# Altium integrated library Micron Memory Mobile LPDRAM.IntLib: 146 symbols (part 9 of 41)
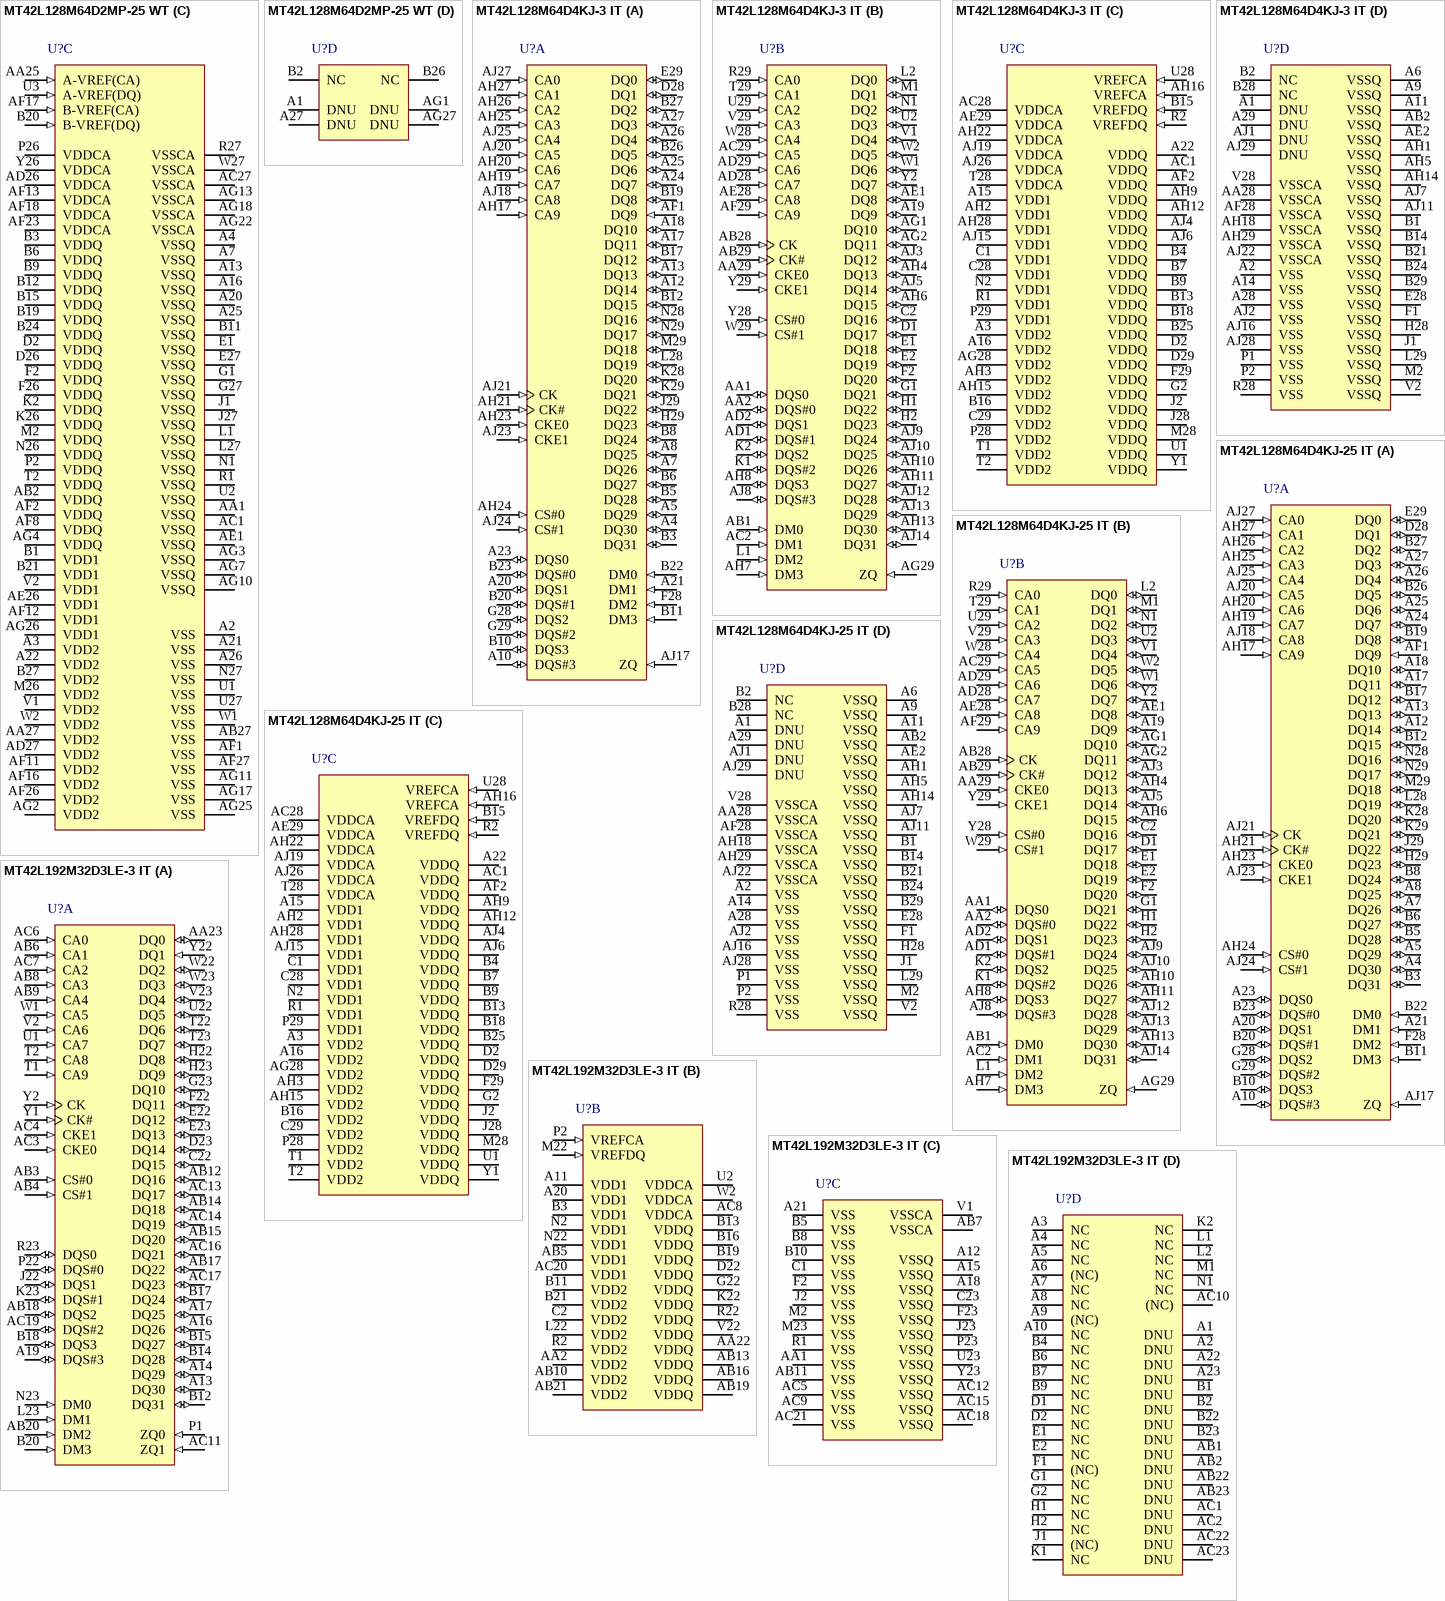
[diagram p32: symbols MT42L128M64D2MP-25 WT to MT42L192M32D3LE-3 IT]

## MT42L128M64D4KJ-25 IT
designator U?
8Gb LPDDR2-800 SDRAM, 128Mb x 64, 2.5ns, 1.2V, -25 to 85 degC, 216-Pin POP; Manufacturer: Micron; PartNumber: MT42L128M64D4KJ-25 IT; Clock Rate: 400 MHz; Op. Temp.: -25C to +85C; DatasheetVersion: Rev.N; PackageVersion: Rev.N; PackageReference: MICT-KJ-216; PackageDescription: 216-Ball POP, 12 x 12 mm, Pitch 0.4 mm; Cycle Time: 2.5ns; Data Rate: LPDDR2-800; Density: 8Gb; Depth: 128Mb; Package: POP; Part Status: Production; Pin Count: 216-ball; RoHS: Yes; Technology: Mobile LPDDR2; Voltage: 1.2V; Width: x64; Mounting Technology: Surface Mount; ComponentLink1Description: Manufacturer URL; ComponentLink1URL: http://www.micron.com/; ComponentLink2Description: Datasheet; ComponentLink2URL: http://www.micron.com/~/media/Documents/Products/Data%20Sheet/DRAM/Mobile%20DRAM/Low-Power%20DRAM/LPDDR2/G69A_2Gb_mobile_lpddr2_s4_sdram.pdf; ComponentLink3Description: Package Specification; ComponentLink3URL: http://www.micron.com/~/media/Documents/Products/Data%20Sheet/DRAM/Mobile%20DRAM/Low-Power%20DRAM/LPDDR2/G69A_2Gb_mobile_lpddr2_s4_sdram.pdf
footprint MICT-KJ-216 (BGA, 216-Balls, Body 12x12mm, Pitch 0.4mm)
part A pins: A4 DQ30 (io) "Data input/output: Bidirectional data bus.", A5 DQ29 (io) "Data input/output: Bidirectional data bus.", A7 DQ26 (io) "Data input/output: Bidirectional data bus.", A8 DQ25 (io) "Data input/output: Bidirectional data bus.", A10 DQS#3 (io) "Data strobe: The data strobe is bidirectional (used for read and write data) and complementary (DQS and DQS#). It is edge-aligned output with read data and centered input with write data. DQS[3:0]/DQS[3:0]# is DQS for each (See Datasheet)", A12 DQ14 (io) "Data input/output: Bidirectional data bus.", A13 DQ13 (io) "Data input/output: Bidirectional data bus.", A17 DQ11 (io) "Data input/output: Bidirectional data bus.", A18 DQ10 (io) "Data input/output: Bidirectional data bus.", A20 DQS1 (io) "Data strobe: The data strobe is bidirectional (used for read and write data) and complementary (DQS and DQS#). It is edge-aligned output with read data and centered input with write data. DQS[3:0]/DQS[3:0]# is DQS for each (See Datasheet)", A21 DM1 (in) "Input data mask: DM is an input mask signal for write data. Although DM balls are input-only, the DM loading is designed to match that of DQ and DQS balls. DM[3:0] is DM for each of the four data bytes, respectively.", A23 DQS0 (io) "Data strobe: The data strobe is bidirectional (used for read and write data) and complementary (DQS and DQS#). It is edge-aligned output with read data and centered input with write data. DQS[3:0]/DQS[3:0]# is DQS for each (See Datasheet)", A24 DQ7 (io) "Data input/output: Bidirectional data bus.", A25 DQ6 (io) "Data input/output: Bidirectional data bus.", A26 DQ4 (io) "Data input/output: Bidirectional data bus.", A27 DQ3 (io) "Data input/output: Bidirectional data bus.", AF1 DQ9 (in) "Data input/output: Bidirectional data bus.", AH17 CA9 (in) "Command/address inputs: Provide the command and address inputs according to the command truth table.", AH19 CA7 (in) "Command/address inputs: Provide the command and address inputs according to the command truth table.", AH20 CA6 (in) "Command/address inputs: Provide the command and address inputs according to the command truth table.", AH21 CK# (in) "Clock: CK and CK# are differential clock inputs. All CA inputs are sampled on both rising and falling edges of CK. CS and CKE inputs are sampled at the rising edge of CK. AC timings are referenced to clock.", AH23 CKE0 (in) "Clock enable: CKE HIGH activates and CKE LOW deactivates the internal clock signals, input buffers, and output drivers. Power-saving modes are entered and exited via CKE transitions. CKE is considered part of the command (See Datasheet)", AH24 CS#0 (in) "Chip select: CS# is considered part of the command code and is sampled at the rising edge of CK.", AH25 CA3 (in) "Command/address inputs: Provide the command and address inputs according to the command truth table.", AH26 CA2 (in) "Command/address inputs: Provide the command and address inputs according to the command truth table.", AH27 CA1 (in) "Command/address inputs: Provide the command and address inputs according to the command truth table.", AJ17 ZQ (in) "External impedance (240 ohm): This signal is used to calibrate the device output impedance for S4 devices. For S2 devices, ZQ should be tied to VDDCA.", AJ18 CA8 (in) "Command/address inputs: Provide the command and address inputs according to the command truth table.", AJ20 CA5 (in) "Command/address inputs: Provide the command and address inputs according to the command truth table.", AJ21 CK (in) "Clock: CK and CK# are differential clock inputs. All CA inputs are sampled on both rising and falling edges of CK. CS and CKE inputs are sampled at the rising edge of CK. AC timings are referenced to clock.", AJ23 CKE1 (in) "Clock enable: CKE HIGH activates and CKE LOW deactivates the internal clock signals, input buffers, and output drivers. Power-saving modes are entered and exited via CKE transitions. CKE is considered part of the command (See Datasheet)", AJ24 CS#1 (in) "Chip select: CS# is considered part of the command code and is sampled at the rising edge of CK.", AJ25 CA4 (in) "Command/address inputs: Provide the command and address inputs according to the command truth table.", AJ27 CA0 (in) "Command/address inputs: Provide the command and address inputs according to the command truth table.", B3 DQ31 (io) "Data input/output: Bidirectional data bus.", B5 DQ28 (io) "Data input/output: Bidirectional data bus.", B6 DQ27 (io) "Data input/output: Bidirectional data bus.", B8 DQ24 (io) "Data input/output: Bidirectional data bus.", B10 DQS3 (io) "Data strobe: The data strobe is bidirectional (used for read and write data) and complementary (DQS and DQS#). It is edge-aligned output with read data and centered input with write data. DQS[3:0]/DQS[3:0]# is DQS for each (See Datasheet)", B11 DM3 (in) "Input data mask: DM is an input mask signal for write data. Although DM balls are input-only, the DM loading is designed to match that of DQ and DQS balls. DM[3:0] is DM for each of the four data bytes, respectively.", B12 DQ15 (io) "Data input/output: Bidirectional data bus.", B17 DQ12 (io) "Data input/output: Bidirectional data bus.", B19 DQ8 (io) "Data input/output: Bidirectional data bus.", B20 DQS#1 (io) "Data strobe: The data strobe is bidirectional (used for read and write data) and complementary (DQS and DQS#). It is edge-aligned output with read data and centered input with write data. DQS[3:0]/DQS[3:0]# is DQS for each (See Datasheet)", B22 DM0 (in) "Input data mask: DM is an input mask signal for write data. Although DM balls are input-only, the DM loading is designed to match that of DQ and DQS balls. DM[3:0] is DM for each of the four data bytes, respectively.", B23 DQS#0 (io) "Data strobe: The data strobe is bidirectional (used for read and write data) and complementary (DQS and DQS#). It is edge-aligned output with read data and centered input with write data. DQS[3:0]/DQS[3:0]# is DQS for each (See Datasheet)", B26 DQ5 (io) "Data input/output: Bidirectional data bus.", B27 DQ2 (io) "Data input/output: Bidirectional data bus.", D28 DQ1 (io) "Data input/output: Bidirectional data bus.", E29 DQ0 (io) "Data input/output: Bidirectional data bus.", F28 DM2 (in) "Input data mask: DM is an input mask signal for write data. Although DM balls are input-only, the DM loading is designed to match that of DQ and DQS balls. DM[3:0] is DM for each of the four data bytes, respectively.", G28 DQS2 (io) "Data strobe: The data strobe is bidirectional (used for read and write data) and complementary (DQS and DQS#). It is edge-aligned output with read data and centered input with write data. DQS[3:0]/DQS[3:0]# is DQS for each (See Datasheet)", G29 DQS#2 (io) "Data strobe: The data strobe is bidirectional (used for read and write data) and complementary (DQS and DQS#). It is edge-aligned output with read data and centered input with write data. DQS[3:0]/DQS[3:0]# is DQS for each (See Datasheet)", H29 DQ23 (io) "Data input/output: Bidirectional data bus.", J29 DQ22 (io) "Data input/output: Bidirectional data bus.", K28 DQ20 (io) "Data input/output: Bidirectional data bus.", K29 DQ21 (io) "Data input/output: Bidirectional data bus.", L28 DQ19 (io) "Data input/output: Bidirectional data bus.", M29 DQ18 (io) "Data input/output: Bidirectional data bus.", N28 DQ16 (io) "Data input/output: Bidirectional data bus.", N29 DQ17 (io) "Data input/output: Bidirectional data bus."
part B pins: A19 DQ9 (io) "Data input/output: Bidirectional data bus.", AA1 DQS0 (io) "Data strobe: The data strobe is bidirectional (used for read and write data) and complementary (DQS and DQS#). It is edge-aligned output with read data and centered input with write data. DQS[3:0]/DQS[3:0]# is DQS for each (See Datasheet)", AA2 DQS#0 (io) "Data strobe: The data strobe is bidirectional (used for read and write data) and complementary (DQS and DQS#). It is edge-aligned output with read data and centered input with write data. DQS[3:0]/DQS[3:0]# is DQS for each (See Datasheet)", AA29 CKE0 (in) "Clock enable: CKE HIGH activates and CKE LOW deactivates the internal clock signals, input buffers, and output drivers. Power-saving modes are entered and exited via CKE transitions. CKE is considered part of the command (See Datasheet)", AB1 DM0 (in) "Input data mask: DM is an input mask signal for write data. Although DM balls are input-only, the DM loading is designed to match that of DQ and DQS balls. DM[3:0] is DM for each of the four data bytes, respectively.", AB28 CK (in) "Clock: CK and CK# are differential clock inputs. All CA inputs are sampled on both rising and falling edges of CK. CS and CKE inputs are sampled at the rising edge of CK. AC timings are referenced to clock.", AB29 CK# (in) "Clock: CK and CK# are differential clock inputs. All CA inputs are sampled on both rising and falling edges of CK. CS and CKE inputs are sampled at the rising edge of CK. AC timings are referenced to clock.", AC2 DM1 (in) "Input data mask: DM is an input mask signal for write data. Although DM balls are input-only, the DM loading is designed to match that of DQ and DQS balls. DM[3:0] is DM for each of the four data bytes, respectively.", AC29 CA5 (in) "Command/address inputs: Provide the command and address inputs according to the command truth table.", AD1 DQS#1 (io) "Data strobe: The data strobe is bidirectional (used for read and write data) and complementary (DQS and DQS#). It is edge-aligned output with read data and centered input with write data. DQS[3:0]/DQS[3:0]# is DQS for each (See Datasheet)", AD2 DQS1 (io) "Data strobe: The data strobe is bidirectional (used for read and write data) and complementary (DQS and DQS#). It is edge-aligned output with read data and centered input with write data. DQS[3:0]/DQS[3:0]# is DQS for each (See Datasheet)", AD28 CA7 (in) "Command/address inputs: Provide the command and address inputs according to the command truth table.", AD29 CA6 (in) "Command/address inputs: Provide the command and address inputs according to the command truth table.", AE1 DQ8 (io) "Data input/output: Bidirectional data bus.", AE28 CA8 (in) "Command/address inputs: Provide the command and address inputs according to the command truth table.", AF29 CA9 (in) "Command/address inputs: Provide the command and address inputs according to the command truth table.", AG1 DQ10 (io) "Data input/output: Bidirectional data bus.", AG2 DQ11 (io) "Data input/output: Bidirectional data bus.", AG29 ZQ (in) "External impedance (240 ohm): This signal is used to calibrate the device output impedance for S4 devices. For S2 devices, ZQ should be tied to VDDCA.", AH4 DQ13 (io) "Data input/output: Bidirectional data bus.", AH6 DQ15 (io) "Data input/output: Bidirectional data bus.", AH7 DM3 (in) "Input data mask: DM is an input mask signal for write data. Although DM balls are input-only, the DM loading is designed to match that of DQ and DQS balls. DM[3:0] is DM for each of the four data bytes, respectively.", AH8 DQS3 (io) "Data strobe: The data strobe is bidirectional (used for read and write data) and complementary (DQS and DQS#). It is edge-aligned output with read data and centered input with write data. DQS[3:0]/DQS[3:0]# is DQS for each (See Datasheet)", AH10 DQ26 (io) "Data input/output: Bidirectional data bus.", AH11 DQ27 (io) "Data input/output: Bidirectional data bus.", AH13 DQ30 (io) "Data input/output: Bidirectional data bus.", AJ3 DQ12 (io) "Data input/output: Bidirectional data bus.", AJ5 DQ14 (io) "Data input/output: Bidirectional data bus.", AJ8 DQS#3 (io) "Data strobe: The data strobe is bidirectional (used for read and write data) and complementary (DQS and DQS#). It is edge-aligned output with read data and centered input with write data. DQS[3:0]/DQS[3:0]# is DQS for each (See Datasheet)", AJ9 DQ24 (io) "Data input/output: Bidirectional data bus.", AJ10 DQ25 (io) "Data input/output: Bidirectional data bus.", AJ12 DQ28 (io) "Data input/output: Bidirectional data bus.", AJ13 DQ29 (io) "Data input/output: Bidirectional data bus.", AJ14 DQ31 (io) "Data input/output: Bidirectional data bus.", C2 DQ16 (io) "Data input/output: Bidirectional data bus.", D1 DQ17 (io) "Data input/output: Bidirectional data bus.", E1 DQ18 (io) "Data input/output: Bidirectional data bus.", E2 DQ19 (io) "Data input/output: Bidirectional data bus.", F2 DQ20 (io) "Data input/output: Bidirectional data bus.", G1 DQ21 (io) "Data input/output: Bidirectional data bus.", H1 DQ22 (io) "Data input/output: Bidirectional data bus.", H2 DQ23 (io) "Data input/output: Bidirectional data bus.", K1 DQS#2 (io) "Data strobe: The data strobe is bidirectional (used for read and write data) and complementary (DQS and DQS#). It is edge-aligned output with read data and centered input with write data. DQS[3:0]/DQS[3:0]# is DQS for each (See Datasheet)", K2 DQS2 (io) "Data strobe: The data strobe is bidirectional (used for read and write data) and complementary (DQS and DQS#). It is edge-aligned output with read data and centered input with write data. DQS[3:0]/DQS[3:0]# is DQS for each (See Datasheet)", L1 DM2 (in) "Input data mask: DM is an input mask signal for write data. Although DM balls are input-only, the DM loading is designed to match that of DQ and DQS balls. DM[3:0] is DM for each of the four data bytes, respectively.", L2 DQ0 (io) "Data input/output: Bidirectional data bus.", M1 DQ1 (io) "Data input/output: Bidirectional data bus.", N1 DQ2 (io) "Data input/output: Bidirectional data bus.", R29 CA0 (in) "Command/address inputs: Provide the command and address inputs according to the command truth table.", T29 CA1 (in) "Command/address inputs: Provide the command and address inputs according to the command truth table.", U2 DQ3 (io) "Data input/output: Bidirectional data bus.", U29 CA2 (in) "Command/address inputs: Provide the command and address inputs according to the command truth table.", V1 DQ4 (io) "Data input/output: Bidirectional data bus.", V29 CA3 (in) "Command/address inputs: Provide the command and address inputs according to the command truth table.", W1 DQ6 (io) "Data input/output: Bidirectional data bus.", W2 DQ5 (io) "Data input/output: Bidirectional data bus.", W28 CA4 (in) "Command/address inputs: Provide the command and address inputs according to the command truth table.", W29 CS#1 (in) "Chip select: CS# is considered part of the command code and is sampled at the rising edge of CK.", Y2 DQ7 (io) "Data input/output: Bidirectional data bus.", Y28 CS#0 (in) "Chip select: CS# is considered part of the command code and is sampled at the rising edge of CK.", Y29 CKE1 (in) "Clock enable: CKE HIGH activates and CKE LOW deactivates the internal clock signals, input buffers, and output drivers. Power-saving modes are entered and exited via CKE transitions. CKE is considered part of the command (See Datasheet)"
part C pins: A3 VDD2 (power) "Core power: Supply 2.", A15 VDD1 (power) "Core power: Supply 1.", A16 VDD2 (power) "Core power: Supply 2.", A22 VDDQ (power) "DQ power supply: Isolated on the die for improved noise immunity.", AC1 VDDQ (power) "DQ power supply: Isolated on the die for improved noise immunity.", AC28 VDDCA (power) "Command/address power supply: Command/address power supply.", AE29 VDDCA (power) "Command/address power supply: Command/address power supply.", AF2 VDDQ (power) "DQ power supply: Isolated on the die for improved noise immunity.", AG28 VDD2 (power) "Core power: Supply 2.", AH2 VDD1 (power) "Core power: Supply 1.", AH3 VDD2 (power) "Core power: Supply 2.", AH9 VDDQ (power) "DQ power supply: Isolated on the die for improved noise immunity.", AH12 VDDQ (power) "DQ power supply: Isolated on the die for improved noise immunity.", AH15 VDD2 (power) "Core power: Supply 2.", AH16 VREFCA (in) "Reference voltage: VREFCA is reference for command/address input buffers, VREFDQ is reference for DQ input buffers.", AH22 VDDCA (power) "Command/address power supply: Command/address power supply.", AH28 VDD1 (power) "Core power: Supply 1.", AJ4 VDDQ (power) "DQ power supply: Isolated on the die for improved noise immunity.", AJ6 VDDQ (power) "DQ power supply: Isolated on the die for improved noise immunity.", AJ15 VDD1 (power) "Core power: Supply 1.", AJ19 VDDCA (power) "Command/address power supply: Command/address power supply.", AJ26 VDDCA (power) "Command/address power supply: Command/address power supply.", B4 VDDQ (power) "DQ power supply: Isolated on the die for improved noise immunity.", B7 VDDQ (power) "DQ power supply: Isolated on the die for improved noise immunity.", B9 VDDQ (power) "DQ power supply: Isolated on the die for improved noise immunity.", B13 VDDQ (power) "DQ power supply: Isolated on the die for improved noise immunity.", B15 VREFDQ (in) "Reference voltage: VREFCA is reference for command/address input buffers, VREFDQ is reference for DQ input buffers.", B16 VDD2 (power) "Core power: Supply 2.", B18 VDDQ (power) "DQ power supply: Isolated on the die for improved noise immunity.", B25 VDDQ (power) "DQ power supply: Isolated on the die for improved noise immunity.", C1 VDD1 (power) "Core power: Supply 1.", C28 VDD1 (power) "Core power: Supply 1.", C29 VDD2 (power) "Core power: Supply 2.", D2 VDDQ (power) "DQ power supply: Isolated on the die for improved noise immunity.", D29 VDDQ (power) "DQ power supply: Isolated on the die for improved noise immunity.", F29 VDDQ (power) "DQ power supply: Isolated on the die for improved noise immunity.", G2 VDDQ (power) "DQ power supply: Isolated on the die for improved noise immunity.", J2 VDDQ (power) "DQ power supply: Isolated on the die for improved noise immunity.", J28 VDDQ (power) "DQ power supply: Isolated on the die for improved noise immunity.", M28 VDDQ (power) "DQ power supply: Isolated on the die for improved noise immunity.", N2 VDD1 (power) "Core power: Supply 1.", P28 VDD2 (power) "Core power: Supply 2.", P29 VDD1 (power) "Core power: Supply 1.", R1 VDD1 (power) "Core power: Supply 1.", R2 VREFDQ (in) "Reference voltage: VREFCA is reference for command/address input buffers, VREFDQ is reference for DQ input buffers.", T1 VDD2 (power) "Core power: Supply 2.", T2 VDD2 (power) "Core power: Supply 2.", T28 VDDCA (power) "Command/address power supply: Command/address power supply.", U1 VDDQ (power) "DQ power supply: Isolated on the die for improved noise immunity.", U28 VREFCA (in) "Reference voltage: VREFCA is reference for command/address input buffers, VREFDQ is reference for DQ input buffers.", Y1 VDDQ (power) "DQ power supply: Isolated on the die for improved noise immunity."
part D pins: A1 DNU "Do not use: Must be grounded or left floating.", A2 VSS (power) "Common ground", A6 VSSQ (power) "DQ ground: Isolated on the die for improved noise immunity.", A9 VSSQ (power) "DQ ground: Isolated on the die for improved noise immunity.", A11 VSSQ (power) "DQ ground: Isolated on the die for improved noise immunity.", A14 VSS (power) "Common ground", A28 VSS (power) "Common ground", A29 DNU "Do not use: Must be grounded or left floating.", AA28 VSSCA (power) "Command/address ground: Isolated on the die for improved noise immunity.", AB2 VSSQ (power) "DQ ground: Isolated on the die for improved noise immunity.", AE2 VSSQ (power) "DQ ground: Isolated on the die for improved noise immunity.", AF28 VSSCA (power) "Command/address ground: Isolated on the die for improved noise immunity.", AH1 VSSQ (power) "DQ ground: Isolated on the die for improved noise immunity.", AH5 VSSQ (power) "DQ ground: Isolated on the die for improved noise immunity.", AH14 VSSQ (power) "DQ ground: Isolated on the die for improved noise immunity.", AH18 VSSCA (power) "Command/address ground: Isolated on the die for improved noise immunity.", AH29 VSSCA (power) "Command/address ground: Isolated on the die for improved noise immunity.", AJ1 DNU "Do not use: Must be grounded or left floating.", AJ2 VSS (power) "Common ground", AJ7 VSSQ (power) "DQ ground: Isolated on the die for improved noise immunity.", AJ11 VSSQ (power) "DQ ground: Isolated on the die for improved noise immunity.", AJ16 VSS (power) "Common ground", AJ22 VSSCA (power) "Command/address ground: Isolated on the die for improved noise immunity.", AJ28 VSS (power) "Common ground", AJ29 DNU "Do not use: Must be grounded or left floating.", B1 VSSQ (power) "DQ ground: Isolated on the die for improved noise immunity.", B2 NC "No connect: Not internally connected.", B14 VSSQ (power) "DQ ground: Isolated on the die for improved noise immunity.", B21 VSSQ (power) "DQ ground: Isolated on the die for improved noise immunity.", B24 VSSQ (power) "DQ ground: Isolated on the die for improved noise immunity.", B28 NC "No connect: Not internally connected.", B29 VSSQ (power) "DQ ground: Isolated on the die for improved noise immunity.", E28 VSSQ (power) "DQ ground: Isolated on the die for improved noise immunity.", F1 VSSQ (power) "DQ ground: Isolated on the die for improved noise immunity.", H28 VSSQ (power) "DQ ground: Isolated on the die for improved noise immunity.", J1 VSSQ (power) "DQ ground: Isolated on the die for improved noise immunity.", L29 VSSQ (power) "DQ ground: Isolated on the die for improved noise immunity.", M2 VSSQ (power) "Data input/output: Bidirectional data bus.", P1 VSS (power) "Common ground", P2 VSS (power) "Common ground", R28 VSS (power) "Common ground", V2 VSSQ (power) "DQ ground: Isolated on the die for improved noise immunity.", V28 VSSCA (power) "Command/address ground: Isolated on the die for improved noise immunity."

## MT42L192M32D3LE-3 IT
designator U?
6Gb LPDDR2-667 SDRAM, 192Mb x 32, 3ns, 1.2V, -25 to 85 degC, 168-Ball VFBGA, Pb-Free; Manufacturer: Micron; PartNumber: MT42L192M32D3LE-3 IT; Clock Rate: 333 MHz; Op. Temp.: -25C to +85C; DatasheetVersion: Rev.N; PackageVersion: Rev.N; PackageReference: MICT-LE-168; PackageDescription: 168-Ball Fine-Pitch Ball Grid Array, 12 x 12 mm, Pitch 0.5 mm; Cycle Time: 3ns; Data Rate: LPDDR2-667; Density: 6Gb; Depth: 192Mb; Package: VFBGA; Part Status: Production; Pin Count: 168-ball; RoHS: Yes; Technology: Mobile LPDDR2; Voltage: 1.2V; Width: x32; Mounting Technology: Surface Mount; ComponentLink1Description: Manufacturer URL; ComponentLink1URL: http://www.micron.com/; ComponentLink2Description: Datasheet; ComponentLink2URL: http://www.micron.com/~/media/Documents/Products/Data%20Sheet/DRAM/Mobile%20DRAM/Low-Power%20DRAM/LPDDR2/G69A_2Gb_mobile_lpddr2_s4_sdram.pdf; ComponentLink3Description: Package Specification; ComponentLink3URL: http://www.micron.com/~/media/Documents/Products/Data%20Sheet/DRAM/Mobile%20DRAM/Low-Power%20DRAM/LPDDR2/G69A_2Gb_mobile_lpddr2_s4_sdram.pdf
footprint MICT-LE-168 (BGA, 168-Balls, Body 12x12mm, Pitch 0.5mm)
part A pins: A13 DQ30 (io) "Data input/output: Bidirectional data bus.", A14 DQ29 (io) "Data input/output: Bidirectional data bus.", A16 DQ26 (io) "Data input/output: Bidirectional data bus.", A17 DQ25 (io) "Data input/output: Bidirectional data bus.", A19 DQS#3 (io) "Data strobe: The data strobe is bidirectional (used for read and write data) and complementary (DQS and DQS#). It is edge-aligned output with read data and centered input with write data. DQS[3:0]/DQS[3:0]# is DQS for each (See Datasheet)", AA23 DQ0 (io) "Data input/output: Bidirectional data bus.", AB3 CS#0 (in) "Chip select: CS# is considered part of the command code and is sampled at the rising edge of CK.", AB4 CS#1 (in) "Chip select: CS# is considered part of the command code and is sampled at the rising edge of CK.", AB6 CA1 (in) "Command/address inputs: Provide the command and address inputs according to the command truth table.", AB8 CA3 (in) "Command/address inputs: Provide the command and address inputs according to the command truth table.", AB9 CA4 (in) "Command/address inputs: Provide the command and address inputs according to the command truth table.", AB12 DQ16 (io) "Data input/output: Bidirectional data bus.", AB14 DQ18 (io) "Data input/output: Bidirectional data bus.", AB15 DQ20 (io) "Data input/output: Bidirectional data bus.", AB17 DQ22 (io) "Data input/output: Bidirectional data bus.", AB18 DQS2 (io) "Data strobe: The data strobe is bidirectional (used for read and write data) and complementary (DQS and DQS#). It is edge-aligned output with read data and centered input with write data. DQS[3:0]/DQS[3:0]# is DQS for each (See Datasheet)", AB20 DM2 (in) "Input data mask: DM is an input mask signal for write data. Although DM balls are input-only, the DM loading is designed to match that of DQ and DQS balls. DM[3:0] is DM for each of the four data bytes, respectively.", AC3 CKE0 (in) "Clock enable: CKE HIGH activates and CKE LOW deactivates the internal clock signals, input buffers, and output drivers. Power-saving modes are entered and exited via CKE transitions. CKE is considered part of the command (See Datasheet)", AC4 CKE1 (in) "Clock enable: CKE HIGH activates and CKE LOW deactivates the internal clock signals, input buffers, and output drivers. Power-saving modes are entered and exited via CKE transitions. CKE is considered part of the command (See Datasheet)", AC6 CA0 (in) "Command/address inputs: Provide the command and address inputs according to the command truth table.", AC7 CA2 (in) "Command/address inputs: Provide the command and address inputs according to the command truth table.", AC11 ZQ1 (in) "External impedance (240 ohm): This signal is used to calibrate the device output impedance for S4 devices. For S2 devices, ZQ should be tied to VDDCA.", AC13 DQ17 (io) "Data input/output: Bidirectional data bus.", AC14 DQ19 (io) "Data input/output: Bidirectional data bus.", AC16 DQ21 (io) "Data input/output: Bidirectional data bus.", AC17 DQ23 (io) "Data input/output: Bidirectional data bus.", AC19 DQS#2 (io) "Data strobe: The data strobe is bidirectional (used for read and write data) and complementary (DQS and DQS#). It is edge-aligned output with read data and centered input with write data. DQS[3:0]/DQS[3:0]# is DQS for each (See Datasheet)", B12 DQ31 (io) "Data input/output: Bidirectional data bus.", B14 DQ28 (io) "Data input/output: Bidirectional data bus.", B15 DQ27 (io) "Data input/output: Bidirectional data bus.", B17 DQ24 (io) "Data input/output: Bidirectional data bus.", B18 DQS3 (io) "Data strobe: The data strobe is bidirectional (used for read and write data) and complementary (DQS and DQS#). It is edge-aligned output with read data and centered input with write data. DQS[3:0]/DQS[3:0]# is DQS for each (See Datasheet)", B20 DM3 (in) "Input data mask: DM is an input mask signal for write data. Although DM balls are input-only, the DM loading is designed to match that of DQ and DQS balls. DM[3:0] is DM for each of the four data bytes, respectively.", C22 DQ15 (io) "Data input/output: Bidirectional data bus.", D23 DQ14 (io) "Data input/output: Bidirectional data bus.", E22 DQ12 (io) "Data input/output: Bidirectional data bus.", E23 DQ13 (io) "Data input/output: Bidirectional data bus.", F22 DQ11 (io) "Data input/output: Bidirectional data bus.", G23 DQ10 (io) "Data input/output: Bidirectional data bus.", H22 DQ8 (io) "Data input/output: Bidirectional data bus.", H23 DQ9 (io) "Data input/output: Bidirectional data bus.", J22 DQS1 (io) "Data strobe: The data strobe is bidirectional (used for read and write data) and complementary (DQS and DQS#). It is edge-aligned output with read data and centered input with write data. DQS[3:0]/DQS[3:0]# is DQS for each (See Datasheet)", K23 DQS#1 (io) "Data strobe: The data strobe is bidirectional (used for read and write data) and complementary (DQS and DQS#). It is edge-aligned output with read data and centered input with write data. DQS[3:0]/DQS[3:0]# is DQS for each (See Datasheet)", L23 DM1 (in) "Input data mask: DM is an input mask signal for write data. Although DM balls are input-only, the DM loading is designed to match that of DQ and DQS balls. DM[3:0] is DM for each of the four data bytes, respectively.", N23 DM0 (in) "Input data mask: DM is an input mask signal for write data. Although DM balls are input-only, the DM loading is designed to match that of DQ and DQS balls. DM[3:0] is DM for each of the four data bytes, respectively.", P1 ZQ0 (in) "External impedance (240 ohm): This signal is used to calibrate the device output impedance for S4 devices. For S2 devices, ZQ should be tied to VDDCA.", P22 DQS#0 (io) "Data strobe: The data strobe is bidirectional (used for read and write data) and complementary (DQS and DQS#). It is edge-aligned output with read data and centered input with write data. DQS[3:0]/DQS[3:0]# is DQS for each (See Datasheet)", R23 DQS0 (io) "Data strobe: The data strobe is bidirectional (used for read and write data) and complementary (DQS and DQS#). It is edge-aligned output with read data and centered input with write data. DQS[3:0]/DQS[3:0]# is DQS for each (See Datasheet)", T1 CA9 (in) "Command/address inputs: Provide the command and address inputs according to the command truth table.", T2 CA8 (in) "Command/address inputs: Provide the command and address inputs according to the command truth table.", T22 DQ6 (io) "Data input/output: Bidirectional data bus.", T23 DQ7 (io) "Data input/output: Bidirectional data bus.", U1 CA7 (in) "Command/address inputs: Provide the command and address inputs according to the command truth table.", U22 DQ5 (io) "Data input/output: Bidirectional data bus.", V2 CA6 (in) "Command/address inputs: Provide the command and address inputs according to the command truth table.", V23 DQ4 (io) "Data input/output: Bidirectional data bus.", W1 CA5 (in) "Command/address inputs: Provide the command and address inputs according to the command truth table.", W22 DQ2 (io) "Data input/output: Bidirectional data bus.", W23 DQ3 (io) "Data input/output: Bidirectional data bus.", Y1 CK# (in) "Clock: CK and CK# are differential clock inputs. All CA inputs are sampled on both rising and falling edges of CK. CS and CKE inputs are sampled at the rising edge of CK. AC timings are referenced to clock.", Y2 CK (in) "Clock: CK and CK# are differential clock inputs. All CA inputs are sampled on both rising and falling edges of CK. CS and CKE inputs are sampled at the rising edge of CK. AC timings are referenced to clock.", Y22 DQ1 (in) "Data input/output: Bidirectional data bus."
part B pins: A11 VDD1 (power) "Core power: Supply 1.", A20 VDD1 (power) "Core power: Supply 1.", AA2 VDD2 (power) "Core power: Supply 2.", AA22 VDDQ (power) "DQ power supply: Isolated on the die for improved noise immunity.", AB5 VDD1 (power) "Core power: Supply 1.", AB10 VDD2 (power) "Core power: Supply 2.", AB13 VDDQ (power) "DQ power supply: Isolated on the die for improved noise immunity.", AB16 VDDQ (power) "DQ power supply: Isolated on the die for improved noise immunity.", AB19 VDDQ (power) "Input data mask: DM is an input mask signal for write data. Although DM balls are input-only, the DM loading is designed to match that of DQ and DQS balls. DM[3:0] is DM for each of the four data bytes, respectively.", AB21 VDD2 (power) "Core power: Supply 2.", AC8 VDDCA (power) "Command/address power supply: Command/address power supply.", AC20 VDD1 (power) "Core power: Supply 1.", B3 VDD1 (power) "Core power: Supply 1.", B11 VDD2 (power) "Core power: Supply 2.", B13 VDDQ (power) "DQ power supply: Isolated on the die for improved noise immunity.", B16 VDDQ (power) "DQ power supply: Isolated on the die for improved noise immunity.", B19 VDDQ (power) "DQ power supply: Isolated on the die for improved noise immunity.", B21 VDD2 (power) "Core power: Supply 2.", C2 VDD2 (power) "Core power: Supply 2.", D22 VDDQ (power) "DQ power supply: Isolated on the die for improved noise immunity.", G22 VDDQ (power) "DQ power supply: Isolated on the die for improved noise immunity.", K22 VDDQ (power) "DQ power supply: Isolated on the die for improved noise immunity.", L22 VDD2 (power) "Core power: Supply 2.", M22 VREFDQ (in) "Reference voltage: VREFCA is reference for command/address input buffers, VREFDQ is reference for DQ input buffers.", N2 VDD1 (power) "Core power: Supply 1.", N22 VDD1 (power) "Core power: Supply 1.", P2 VREFCA (in) "Reference voltage: VREFCA is reference for command/address input buffers, VREFDQ is reference for DQ input buffers.", R2 VDD2 (power) "Core power: Supply 2. VSS Supply", R22 VDDQ (power) "DQ power supply: Isolated on the die for improved noise immunity.", U2 VDDCA (power) "Command/address power supply: Command/address power supply.", V22 VDDQ (power) "DQ power supply: Isolated on the die for improved noise immunity.", W2 VDDCA (power) "Command/address power supply: Command/address power supply."
part C pins: A12 VSSQ (power) "DQ ground: Isolated on the die for improved noise immunity.", A15 VSSQ (power) "DQ ground: Isolated on the die for improved noise immunity.", A18 VSSQ (power) "DQ ground: Isolated on the die for improved noise immunity.", A21 VSS (power) "Common ground", AA1 VSS (power) "Common ground", AB7 VSSCA (power) "Command/address ground: Isolated on the die for improved noise immunity.", AB11 VSS (power) "Common ground", AC5 VSS (power) "Common ground", AC9 VSS (power) "Common ground", AC12 VSSQ (power) "DQ ground: Isolated on the die for improved noise immunity.", AC15 VSSQ (power) "DQ ground: Isolated on the die for improved noise immunity.", AC18 VSSQ (power) "DQ ground: Isolated on the die for improved noise immunity.", AC21 VSS (power) "Common ground", B5 VSS (power) "Common ground", B8 VSS (power) "Common ground", B10 VSS (power) "Common ground", C1 VSS (power) "Common ground", C23 VSSQ (power) "DQ ground: Isolated on the die for improved noise immunity.", F2 VSS (power) "Common ground", F23 VSSQ (power) "DQ ground: Isolated on the die for improved noise immunity.", J2 VSS (power) "Common ground", J23 VSSQ (power) "DQ ground: Isolated on the die for improved noise immunity.", M2 VSS (power) "Common ground", M23 VSS (power) "Common ground", P23 VSSQ (power) "DQ ground: Isolated on the die for improved noise immunity.", R1 VSS (power) "Common ground", U23 VSSQ (power) "DQ ground: Isolated on the die for improved noise immunity.", V1 VSSCA (power) "Command/address ground: Isolated on the die for improved noise immunity.", Y23 VSSQ (power) "DQ ground: Isolated on the die for improved noise immunity."
part D pins: A1 DNU "Do not use: Must be grounded or left floating.", A2 DNU "Do not use: Must be grounded or left floating.", A3 NC "No connect: Not internally connected.", A4 NC "No connect: Not internally connected.", A5 NC "No connect: Not internally connected.", A6 (NC) "No connect: Balls indicated as (NC) are no connects, however, they could be connected together internally.", A7 NC "No connect: Not internally connected.", A8 NC "No connect: Not internally connected.", A9 (NC) "No connect: Balls indicated as (NC) are no connects, however, they could be connected together internally.", A10 NC "No connect: Not internally connected.", A22 DNU "Do not use: Must be grounded or left floating.", A23 DNU "Do not use: Must be grounded or left floating.", AB1 DNU "Do not use: Must be grounded or left floating.", AB2 DNU "Do not use: Must be grounded or left floating.", AB22 DNU "Do not use: Must be grounded or left floating.", AB23 DNU "Do not use: Must be grounded or left floating.", AC1 DNU "Do not use: Must be grounded or left floating.", AC2 DNU "Do not use: Must be grounded or left floating.", AC10 (NC) "No connect: Balls indicated as (NC) are no connects, however, they could be connected together internally.", AC22 DNU "Do not use: Must be grounded or left floating.", AC23 DNU "Do not use: Must be grounded or left floating.", B1 DNU "Do not use: Must be grounded or left floating.", B2 DNU "Do not use: Must be grounded or left floating.", B4 NC "No connect: Not internally connected.", B6 NC "No connect: Not internally connected.", B7 NC "No connect: Not internally connected.", B9 NC "No connect: Not internally connected.", B22 DNU "Do not use: Must be grounded or left floating.", B23 DNU "Do not use: Must be grounded or left floating.", D1 NC "No connect: Not internally connected.", D2 NC "No connect: Not internally connected.", E1 NC "No connect: Not internally connected.", E2 NC "No connect: Not internally connected.", F1 (NC) "No connect: Balls indicated as (NC) are no connects, however, they could be connected together internally.", G1 NC "No connect: Not internally connected.", G2 NC "No connect: Not internally connected.", H1 NC "No connect: Not internally connected.", H2 NC "No connect: Not internally connected.", J1 (NC) "No connect: Balls indicated as (NC) are no connects, however, they could be connected together internally.", K1 NC "No connect: Not internally connected.", K2 NC "No connect: Not internally connected.", L1 NC "No connect: Not internally connected.", L2 NC "No connect: Not internally connected.", M1 NC "No connect: Not internally connected.", N1 NC "No connect: Not internally connected."

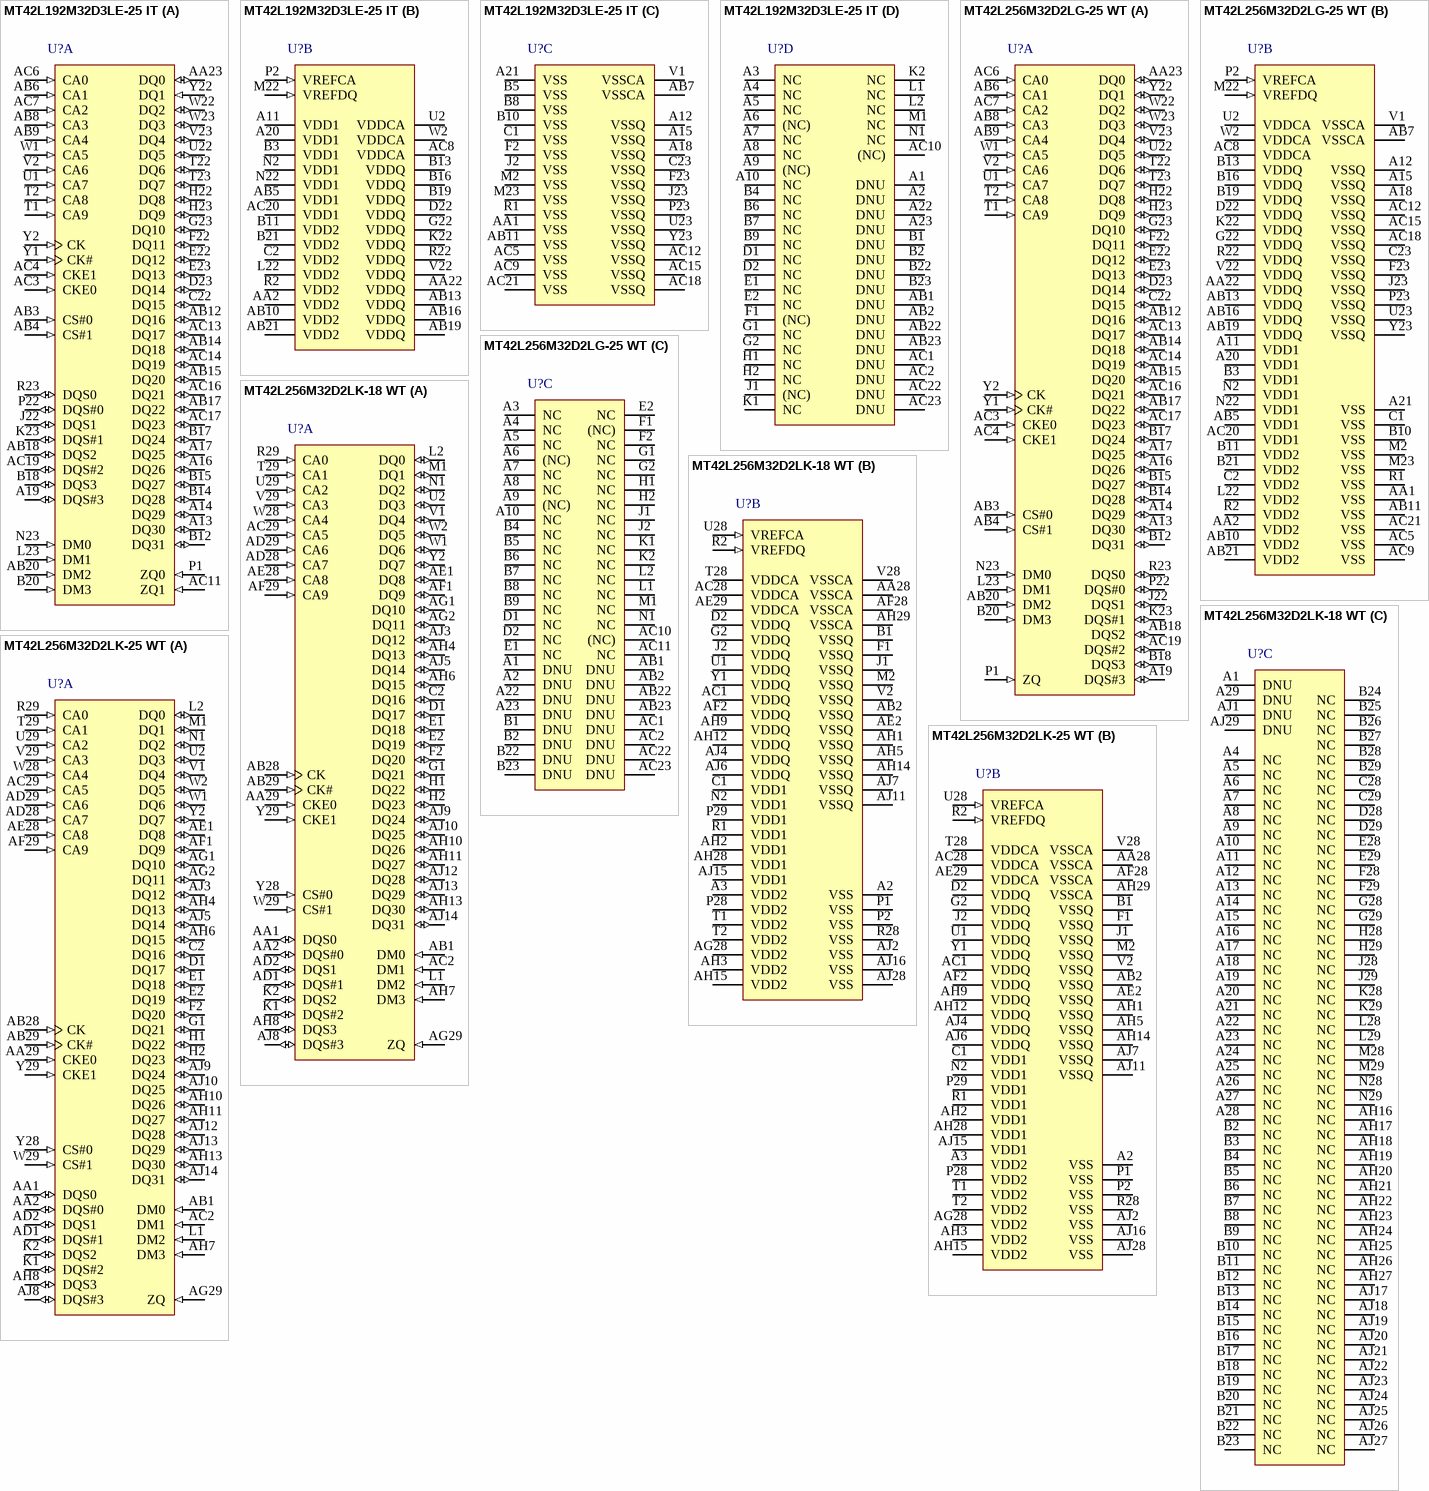
[diagram p6: symbols MT42L192M32D3LE-25 IT to MT42L256M32D2LK-25 WT]